# Altium schematic symbol library max14808.SchLib: 2 symbols
Pins are listed as number, name and electrical type; pins without a type are passive.

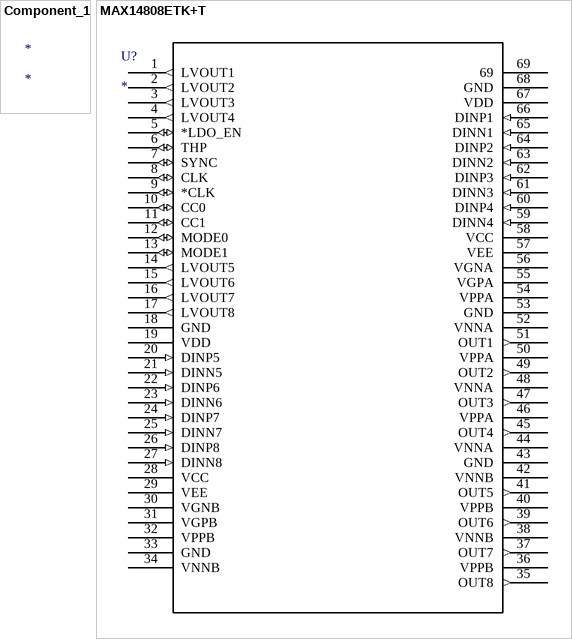
[diagram p0: symbols Component_1 to MAX14808ETK+T]

## Component_1
designator *

## MAX14808ETK+T
designator U?
Imported; Manufacturer_Part_Number: MAX14808ETK+T; Vendor: Maxim; Manufacturer_Name: Maxim; RefDes: RefDes; Type: DEV; Value: Value
footprint 21-0142E_T6800-2
pins: 1 LVOUT1 (out), 2 LVOUT2 (out), 3 LVOUT3 (out), 4 LVOUT4 (out), 5 *LDO_EN (io), 6 THP (io), 7 SYNC (io), 8 CLK (io), 9 *CLK (io), 10 CC0 (io), 11 CC1 (io), 12 MODE0 (io), 13 MODE1 (io), 14 LVOUT5 (out), 15 LVOUT6 (out), 16 LVOUT7 (out), 17 LVOUT8 (out), 18 GND (power), 19 VDD (power), 20 DINP5 (in), 21 DINN5 (in), 22 DINP6 (in), 23 DINN6 (in), 24 DINP7 (in), 25 DINN7 (in), 26 DINP8 (in), 27 DINN8 (in), 28 VCC (power), 29 VEE (power), 30 VGNB (power), 31 VGPB (power), 32 VPPB (power), 33 GND (power), 34 VNNB (power), 35 OUT8 (out), 36 VPPB (power), 37 OUT7 (out), 38 VNNB (power), 39 OUT6 (out), 40 VPPB (power), 41 OUT5 (out), 42 VNNB (power), 43 GND (power), 44 VNNA (power), 45 OUT4 (out), 46 VPPA (power), 47 OUT3 (out), 48 VNNA (power), 49 OUT2 (out), 50 VPPA (power), 51 OUT1 (out), 52 VNNA (power), 53 GND (power), 54 VPPA (power), 55 VGPA (power), 56 VGNA (power), 57 VEE (power), 58 VCC (power), 59 DINN4 (in), 60 DINP4 (in), 61 DINN3 (in), 62 DINP3 (in), 63 DINN2 (in), 64 DINP2 (in), 65 DINN1 (in), 66 DINP1 (in), 67 VDD (power), 68 GND (power), 69